# EAGLE library part HFD23-005-1ZS (library mylib)
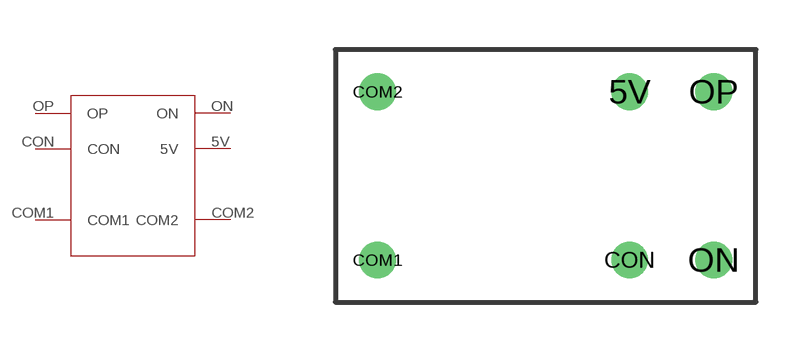
[diagram p14: symbol with the pads of HFD23-005-1ZS; footprint HFD23-005-1ZS]

Designator prefix -

## HFD23-005-1ZS  [HFD23-005-1ZS]
5V  5V
COM1  COM1
COM2  COM2
CON  CON
ON  ON
OP  OP

## Footprint HFD23-005-1ZS (pad centres in mm)
drill 0.6: 5V 2.96,2.43; COM1 -4.66,-2.65; COM2 -4.66,2.43; CON 2.96,-2.65; ON 5.5,-2.65; OP 5.5,2.43